# EAGLE library part PP140-80CBS2.75X5.00 (library NewSDR)
Leader Tech Shield 2.75" x 5.00"
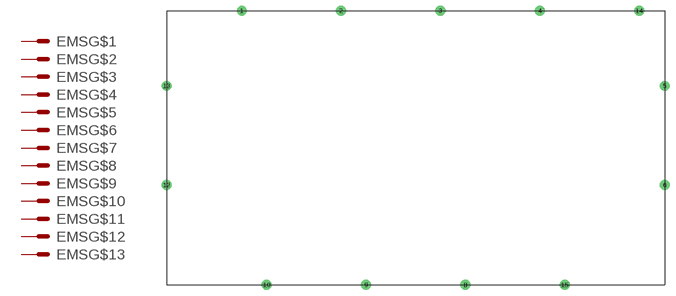
[diagram p83: symbol with the pads of PP140-80CBS2.75X5.00; footprint PP140-80CBS2.75X5.00]

Designator prefix EMS; gates G$1=MS G$2=MS G$3=MS G$4=MS G$5=MS G$6=MS G$7=MS G$8=MS G$9=MS G$10=MS G$11=MS G$12=MS G$13=MS

## PP140-80CBS2.75X5.00  [PP140-80CBS2.75X5.00]
1  G$1:MS  pas
2  G$2:MS  pas
3  G$3:MS  pas
4  G$4:MS  pas
5  G$5:MS  pas
6  G$6:MS  pas
8  G$7:MS  pas
9  G$8:MS  pas
10  G$9:MS  pas
12  G$10:MS  pas
13  G$11:MS  pas
14  G$12:MS  pas
15  G$13:MS  pas

## Footprint PP140-80CBS2.75X5.00 (pad centres in mm)
Leader Tech Shield 2.75" x 5.00"
drill 1.27 pad 2.54: 1 19.202,0; 2 44.602,0; 3 70.002,0; 4 95.402,0; 5 127.305,-19.202; 6 127.305,-44.602; 8 76.352,-70.155; 9 50.952,-70.155; 10 25.552,-70.155; 12 0,-44.602; 13 0,-19.202; 14 120.802,0; 15 101.752,-70.155